# Altium schematic symbol library 222-4525.SchLib: 1 symbol
Pins are listed as number, name and electrical type; pins without a type are passive.

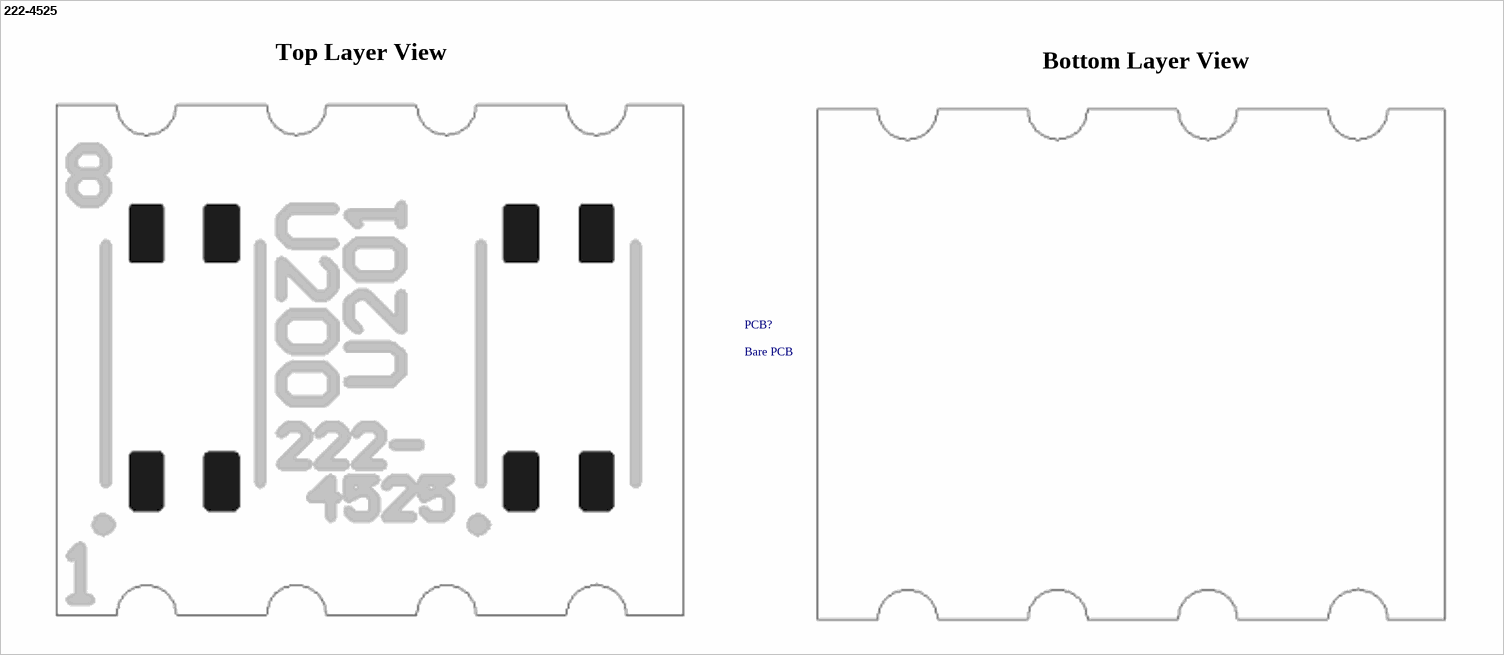
[diagram p0: symbol 222-4525]

## 222-4525
designator PCB?, comment Bare PCB
BT CAN diagnostic MOSFET Switch PCB
text: Top Layer View; Bottom Layer View